# Altium footprint library 2eds8265h_pinpcbDSO-16.PcbLib: 1 footprints
Each footprint in its own frame and in the unit in brackets; x right, y up, seen from the top. Pads: shape width x height; smd on the part's side, far side on the other; paste and mask are expansions set on the pad; w line width, h text height; cw(c..) or ccw(c..) is an arc to the next point about the centre after c.
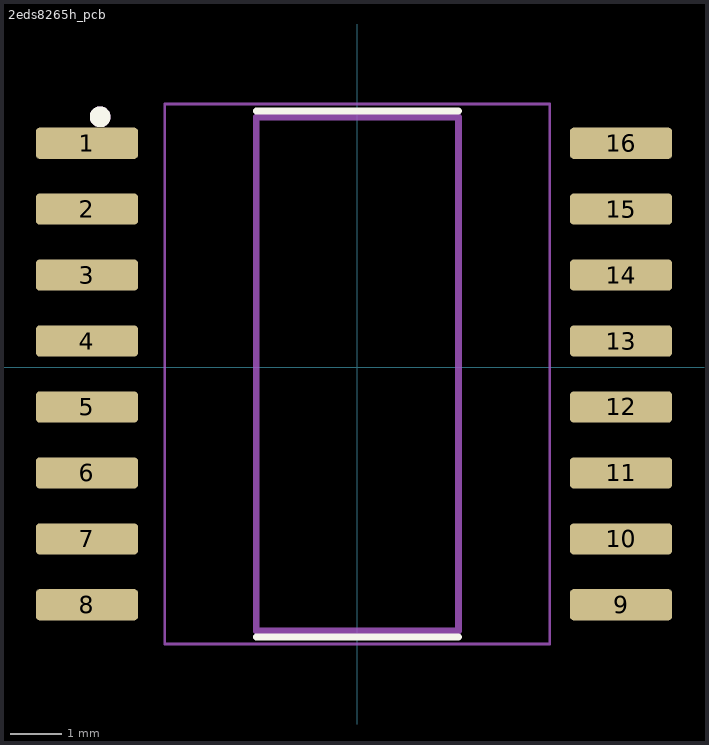
[diagram p0: the footprint, top view; thin cyan lines are the x and y axes]

## 2eds8265h_pcb [mm]
pads (16):
  rrect25% 1.97x0.6 smd: 1(-5.207,4.318) 2(-5.207,3.048) 3(-5.207,1.778) 4(-5.207,0.508) 5(-5.207,-0.762) 6(-5.207,-2.032) 7(-5.207,-3.302) 8(-5.207,-4.572) 9(5.08,-4.572) 10(5.08,-3.302) 11(5.08,-2.032) 12(5.08,-0.762) 13(5.08,0.508) 14(5.08,1.778) 15(5.08,3.048) 16(5.08,4.318)
Top Overlay:
  circle w0.2: c-4.953,4.826 r0.1
  lines w0.127: -1.95,-5.192 1.95,-5.192 ; -1.95,4.938 1.95,4.938
Mechanical 13:
  circle w0.2: c-4.953,4.826 r0.1
  lines w0.127: -1.95,-5.077 1.95,-5.077 1.95,4.823 -1.95,4.823 -1.95,-5.077
Mechanical 15:
  lines w0.05: -3.71,-5.327 3.71,-5.327 3.71,5.073 -3.71,5.073 -3.71,-5.327
3D body "step_temp.STEP": height 2.65, standoff 0, extent -5.15,-5.277 5.15,5.023